# Altium footprint library resistor.PCBLIB: 427 footprints (part 20 of 27)
Each footprint in its own frame and in the unit in brackets; x right, y up, seen from the top. Pads: shape width x height; smd on the part's side, far side on the other; paste and mask are expansions set on the pad; w line width, h text height; cw(c..) or ccw(c..) is an arc to the next point about the centre after c.
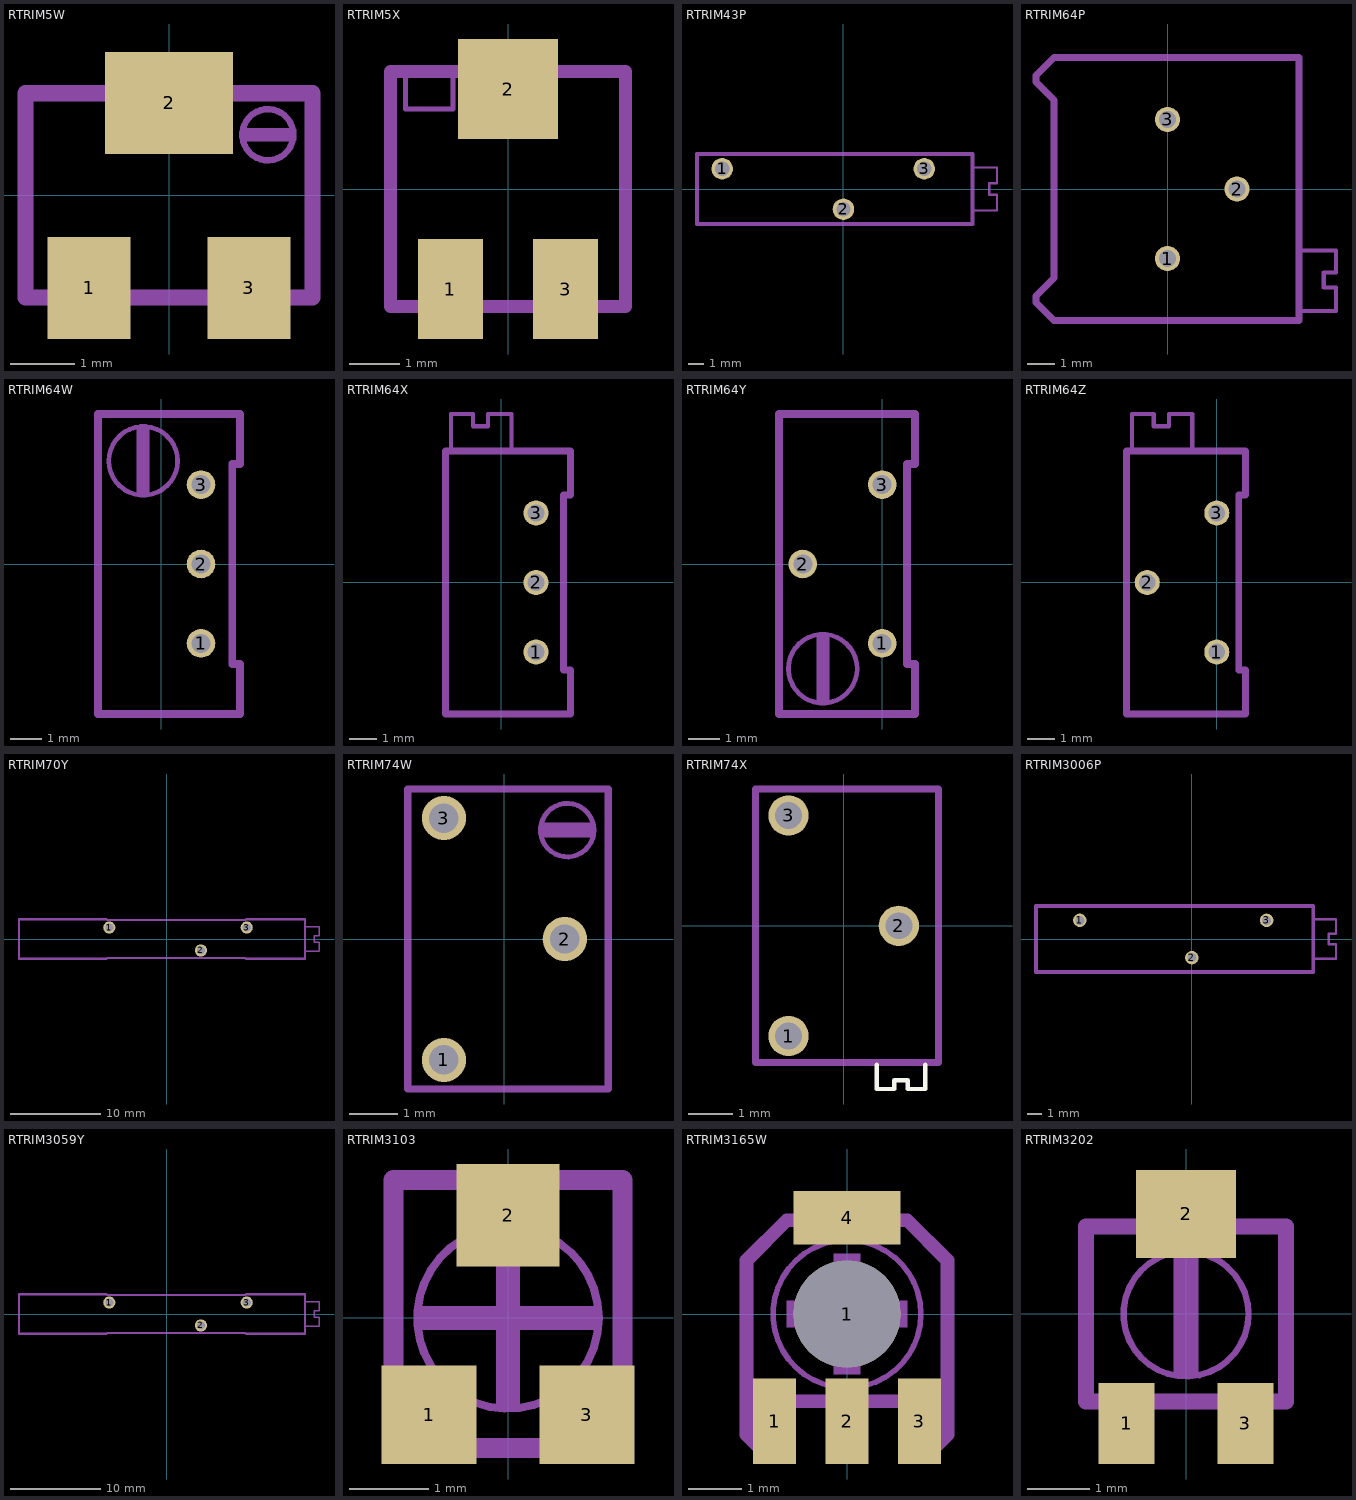
[diagram p19: the footprints below, top view; thin cyan lines are the x and y axes]

## RTRIM5W [mm]
pads (3):
  rect 1.3x1.6 smd: 1(-1.25,-1.45) 3(1.25,-1.45)
  rect 2x1.6 smd: 2(0,1.45)
Mechanical 8:
  lines w0.254: -2.25,-1.6 -2.25,1.6 2.25,1.6 2.25,-1.6 -2.25,-1.6
Mechanical 22:
  circle w0.102: c1.55,0.95 r0.4
  region: 1.15,0.85 1.15,1.05 1.95,1.05 1.95,0.85
  lines w0.254: -2.25,-1.6 -2.25,1.6 -1.25,1.6 ; -0.3,-1.6 0.3,-1.6 ; 1.25,1.6 2.25,1.6 2.25,-1.6

## RTRIM5X [mm]
pads (3):
  rect 1.3x2 smd: 1(-1.15,-2) 3(1.15,-2)
  rect 2x2 smd: 2(0,2)
Mechanical 8:
  lines w0.254: -2.35,-2.35 -2.35,2.35 2.35,2.35 2.35,-2.35 -2.35,-2.35
Mechanical 22:
  lines w0.102: -2.05,2.25 -2.05,1.6 -1.1,1.6 -1.1,2.25
  lines w0.254: -2.05,-2.35 -2.35,-2.35 -2.35,2.35 -1.25,2.35 ; -0.25,-2.35 0.25,-2.35 ; 1.25,2.35 2.35,2.35 2.35,-2.35 2.05,-2.35

## RTRIM43P [mil]
pads (3):
  round 53.15 / inner round 60 / far side round 53.15 hole 35.43: 1(-300,50) 2(0,-50) 3(200,50)
Mechanical 22:
  lines w6: 322.83,-53.15 379.92,-53.15 379.92,-13.78 360.24,-13.78 360.24,13.78 379.92,13.78 379.92,53.15 322.83,53.15
  lines w10: -362.2,-86.61 -362.2,86.61 318.9,86.61 318.9,-86.61 -362.2,-86.61

## RTRIM64P [mil]
pads (3):
  round 36 / inner round 60 / far side round 36 hole 24: 1(0,-100) 2(100,0) 3(0,100)
Mechanical 22:
  lines w6: 194.88,-175.2 242.13,-175.2 242.13,-141.73 224.41,-141.73 224.41,-120.08 242.13,-120.08 242.13,-88.58 194.88,-88.58
  lines w10: -188.98,-163.39 -188.98,-153.54 -163.39,-127.95 -163.39,127.95 -188.98,153.54 -188.98,163.39 -163.39,188.98 188.98,188.98 188.98,-188.98 -163.39,-188.98 -188.98,-163.39

## RTRIM64W [mil]
pads (3):
  round 36 / inner round 60 / far side round 36 hole 24: 1(50,-100) 2(50,0) 3(50,100)
Mechanical 22:
  circle w6: c-22.83,129.92 r43.31
  region: -30.71,88.58 -30.71,171.26 -14.96,171.26 -14.96,88.58
  lines w10: -79.92,-188.98 99.21,-188.98 99.21,-125.98 89.37,-125.98 89.37,125.98 99.21,125.98 99.21,188.98 -79.92,188.98 -79.92,-188.98

## RTRIM64X [mil]
pads (3):
  round 36 / inner round 60 / far side round 36 hole 24: 1(50,-100) 2(50,0) 3(50,100)
Mechanical 22:
  lines w6: -72.05,194.88 -72.05,242.13 -40.55,242.13 -40.55,224.41 -18.9,224.41 -18.9,242.13 14.57,242.13 14.57,194.88
  lines w10: -79.92,-188.98 99.21,-188.98 99.21,-125.98 89.37,-125.98 89.37,125.98 99.21,125.98 99.21,188.98 -79.92,188.98 -79.92,-188.98

## RTRIM64Y [mil]
pads (3):
  round 36 / inner round 60 / far side round 36 hole 24: 1(0,-100) 2(-100,0) 3(0,100)
Mechanical 22:
  circle w6: c-74.8,-131.89 r43.31
  region: -82.68,-173.23 -82.68,-90.55 -66.93,-90.55 -66.93,-173.23
  lines w10: -129.92,-188.98 41.34,-188.98 41.34,-125.98 31.5,-125.98 31.5,125.98 41.34,125.98 41.34,188.98 -129.92,188.98 -129.92,-188.98

## RTRIM64Z [mil]
pads (3):
  round 36 / inner round 60 / far side round 36 hole 24: 1(0,-100) 2(-100,0) 3(0,100)
Mechanical 22:
  lines w6: -122.05,194.88 -122.05,242.13 -90.55,242.13 -90.55,224.41 -68.9,224.41 -68.9,242.13 -35.43,242.13 -35.43,194.88
  lines w10: -129.92,-188.98 41.34,-188.98 41.34,-125.98 31.5,-125.98 31.5,125.98 41.34,125.98 41.34,188.98 -129.92,188.98 -129.92,-188.98

## RTRIM70Y [mil]
pads (3):
  round 53.15 / inner round 60 / far side round 53.15 hole 35.43: 1(-250,50) 2(150,-50) 3(350,50)
Mechanical 22:
  lines w6: 608.66,-53.15 665.75,-53.15 665.75,-13.78 646.06,-13.78 646.06,13.78 665.75,13.78 665.75,53.15 608.66,53.15
  lines w10: -644.49,-86.61 -644.49,86.61 -263.39,86.61 -259.45,82.68 342.91,82.68 346.85,86.61 604.72,86.61 604.72,-86.61 346.85,-86.61 342.91,-82.68 -259.45,-82.68 -263.39,-86.61 -644.49,-86.61

## RTRIM74W [mil]
pads (3):
  round 36 / inner round 60 / far side round 36 hole 24: 1(-49.21,-98.43) 2(49.21,0) 3(-49.21,98.43)
Mechanical 22:
  circle w4: c51.18,88.58 r21.74
  region: 31.5,82.68 31.5,94.49 70.87,94.49 70.87,82.68
  lines w6: -78.74,-122.05 -78.74,122.05 84.65,122.05 84.65,-122.05 -78.74,-122.05

## RTRIM74X [mil]
pads (3):
  round 36 / inner round 60 / far side round 36 hole 24: 1(-49.21,-98.43) 2(49.21,0) 3(-49.21,98.43)
Top Overlay:
  lines w4: 29.53,-124.02 29.53,-145.67 45.28,-145.67 45.28,-137.8 57.09,-137.8 57.09,-145.67 72.83,-145.67 72.83,-124.02
Mechanical 22:
  lines w6: -78.74,-122.05 -78.74,122.05 84.65,122.05 84.65,-122.05 -78.74,-122.05

## RTRIM3006P [mil]
pads (3):
  round 36 / inner round 60 / far side round 36 hole 24: 1(-300,50) 2(0,-50) 3(200,50)
Mechanical 22:
  lines w6: 328.74,-53.15 385.83,-53.15 385.83,-13.78 366.14,-13.78 366.14,13.78 385.83,13.78 385.83,53.15 328.74,53.15
  lines w10: -417.32,-88.58 -417.32,88.58 324.8,88.58 324.8,-88.58 -417.32,-88.58

## RTRIM3059Y [mil]
pads (3):
  round 53.15 / inner round 60 / far side round 53.15 hole 35.43: 1(-250,50) 2(150,-50) 3(350,50)
Mechanical 22:
  lines w6: 608.66,-53.15 665.75,-53.15 665.75,-13.78 646.06,-13.78 646.06,13.78 665.75,13.78 665.75,53.15 608.66,53.15
  lines w10: -644.49,-86.61 -644.49,86.61 -263.39,86.61 -259.45,82.68 342.91,82.68 346.85,86.61 604.72,86.61 604.72,-86.61 346.85,-86.61 342.91,-82.68 -259.45,-82.68 -263.39,-86.61 -644.49,-86.61

## RTRIM3103 [mm]
pads (3):
  rect 1.2x1.25 smd: 1(-1,-1.225) 3(1,-1.225)
  rect 1.3x1.3 smd: 2(0,1.3)
Mechanical 8:
  circle w0.102: c0,0 r1.15
  region: -1.15,-0.15 -1.15,0.15 1.15,0.15 1.15,-0.15
  region: -0.15,-1.15 -0.15,1.15 0.15,1.15 0.15,-1.15
  lines w0.254: -1.45,-1.65 -1.45,1.75 1.45,1.75 1.45,-1.65 -1.45,-1.65
Mechanical 22:
  lines w0.254: -1.45,-0.4 -1.45,1.75 -0.85,1.75 ; 0.85,1.75 1.45,1.75 1.45,-0.4

## RTRIM3165W [mm]
pads (5):
  rect 0.8x1.6 smd: 1(-1.35,-2) 2(0,-2) 3(1.35,-2)
  round 2 hole 2 unplated: 1(0,0)
  rect 2x1 smd: 4(0,1.8)
Mechanical 8:
  lines w0.254: -1.875,-1.375 -1.875,-2.25 -1.625,-2.5 -1.125,-2.5 -1.125,-1.625 -0.25,-1.625 -0.25,-2.5 0.25,-2.5 0.25,-1.625 1.125,-1.625 1.125,-2.5 1.625,-2.5 1.875,-2.25 1.875,-1.625 ; -1.125,1.75 1.125,1.75
Mechanical 22:
  circle w0.102: c0,0 r1.38
  region: -0.25,-1.125 -0.25,1.125 0.25,1.125 0.25,-1.125
  region: -1.125,-0.25 -1.125,0.25 1.125,0.25 1.125,-0.25
  lines w0.254: -1.875,-1.375 -1.875,1 -1.125,1.75 ; 1.125,1.75 1.875,1 1.875,-1.625

## RTRIM3202 [mil]
pads (3):
  rect 35.43x51.18 smd: 1(-37.4,-68.9) 3(37.4,-68.9)
  rect 62.99x55.12 smd: 2(0,62.99)
Mechanical 8:
  circle w4: c0,0 r39.37
  region: -7.87,-39.37 -7.87,39.37 7.87,39.37 7.87,-39.37
  lines w10: -62.99,-55.12 62.99,-55.12 ; -62.99,55.12 62.99,55.12
Mechanical 22:
  lines w10: -62.99,-55.12 -62.99,55.12 -39.37,55.12 ; -11.81,-55.12 11.81,-55.12 ; 39.37,55.12 62.99,55.12 62.99,-55.12